# Altium schematic symbol library K4B4G1646D-BCK0.SchLib: 1 symbol
Pins are listed as number, name and electrical type; pins without a type are passive.

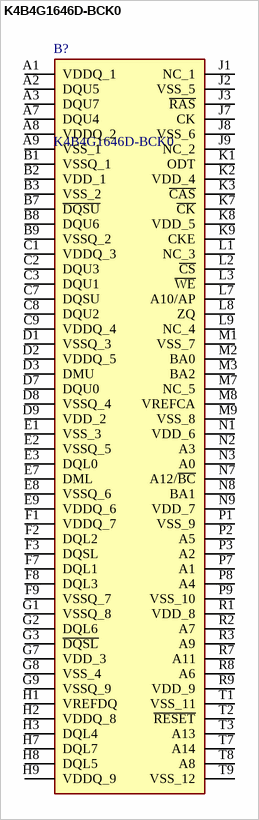
[diagram p0: symbol K4B4G1646D-BCK0]

## K4B4G1646D-BCK0
designator B?
4Gb D-die DDR3 SDRAM Only x16 96FBGA with Lead-Free & Halogen-Free; Manufacturer_Name: SAMSUNG; Geometry.Height: 1.2mm; Arrow Part Number: K4B4G1646D-BCK0; Arrow Price/Stock: https://www.arrow.com/en/products/k4b4g1646d-bck0/samsung-electro-mechanics; Manufacturer_Part_Number: K4B4G1646D-BCK0; Datasheet Link: https://www.arrow.com/en/products/k4b4g1646d-bck0/samsung-electro-mechanics
footprint BGA96C80P9X16_750X1330X120
pins: A1 VDDQ_1, A2 DQU5, A3 DQU7, A7 DQU4, A8 VDDQ_2, A9 VSS_1, B1 VSSQ_1, B2 VDD_1, B3 VSS_2, B7 ~{DQSU}, B8 DQU6, B9 VSSQ_2, C1 VDDQ_3, C2 DQU3, C3 DQU1, C7 DQSU, C8 DQU2, C9 VDDQ_4, D1 VSSQ_3, D2 VDDQ_5, D3 DMU, D7 DQU0, D8 VSSQ_4, D9 VDD_2, E1 VSS_3, E2 VSSQ_5, E3 DQL0, E7 DML, E8 VSSQ_6, E9 VDDQ_6, F1 VDDQ_7, F2 DQL2, F3 DQSL, F7 DQL1, F8 DQL3, F9 VSSQ_7, G1 VSSQ_8, G2 DQL6, G3 ~{DQSL}, G7 VDD_3, G8 VSS_4, G9 VSSQ_9, H1 VREFDQ, H2 VDDQ_8, H3 DQL4, H7 DQL7, H8 DQL5, H9 VDDQ_9, J1 NC_1, J2 VSS_5, J3 ~{RAS}, J7 CK, J8 VSS_6, J9 NC_2, K1 ODT, K2 VDD_4, K3 ~{CAS}, K7 ~{CK}, K8 VDD_5, K9 CKE, L1 NC_3, L2 ~{CS}, L3 ~{WE}, L7 A10/AP, L8 ZQ, L9 NC_4, M1 VSS_7, M2 BA0, M3 BA2, M7 NC_5, M8 VREFCA, M9 VSS_8, N1 VDD_6, N2 A3, N3 A0, N7 A12/~{BC}, N8 BA1, N9 VDD_7, P1 VSS_9, P2 A5, P3 A2, P7 A1, P8 A4, P9 VSS_10, R1 VDD_8, R2 A7, R3 A9, R7 A11, R8 A6, R9 VDD_9, T1 VSS_11, T2 ~{RESET}, T3 A13, T7 A14, T8 A8, T9 VSS_12